# EAGLE library part DP3T_TOGGLE_SWITCH (library custom)
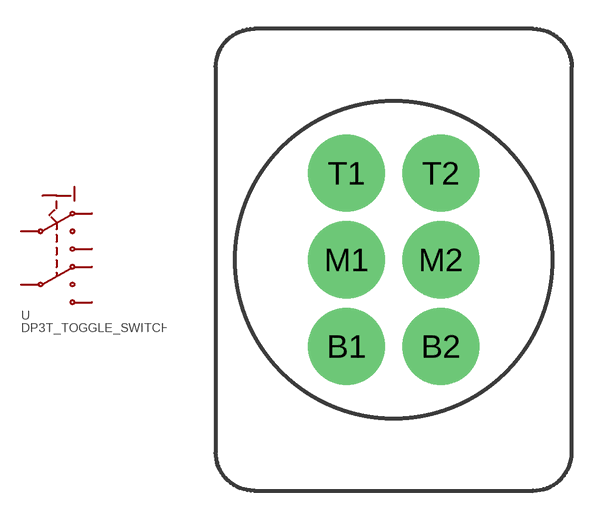
[diagram p25: symbol with the pads of DP3T_TOGGLE_SWITCH; footprint DP3T_TOGGLE_SWITCH]

Designator prefix -

## DP3T_TOGGLE_SWITCH  [DP3T_TOGGLE_SWITCH]
B1  B1
B2  B2
M1  M1
M2  M2
T1  T1
T2  T2

## Footprint DP3T_TOGGLE_SWITCH (pad centres in mm)
drill 2.381 pad 4: B1 -2.45,-4.5; B2 2.45,-4.5; M1 -2.45,0; M2 2.45,0; T1 -2.45,4.5; T2 2.45,4.5